# Altium footprint library spd1501.PcbLib: 80 footprints (part 5 of 5)
Each footprint in its own frame and in the unit in brackets; x right, y up, seen from the top. Pads: shape width x height; smd on the part's side, far side on the other; paste and mask are expansions set on the pad; w line width, h text height; cw(c..) or ccw(c..) is an arc to the next point about the centre after c.
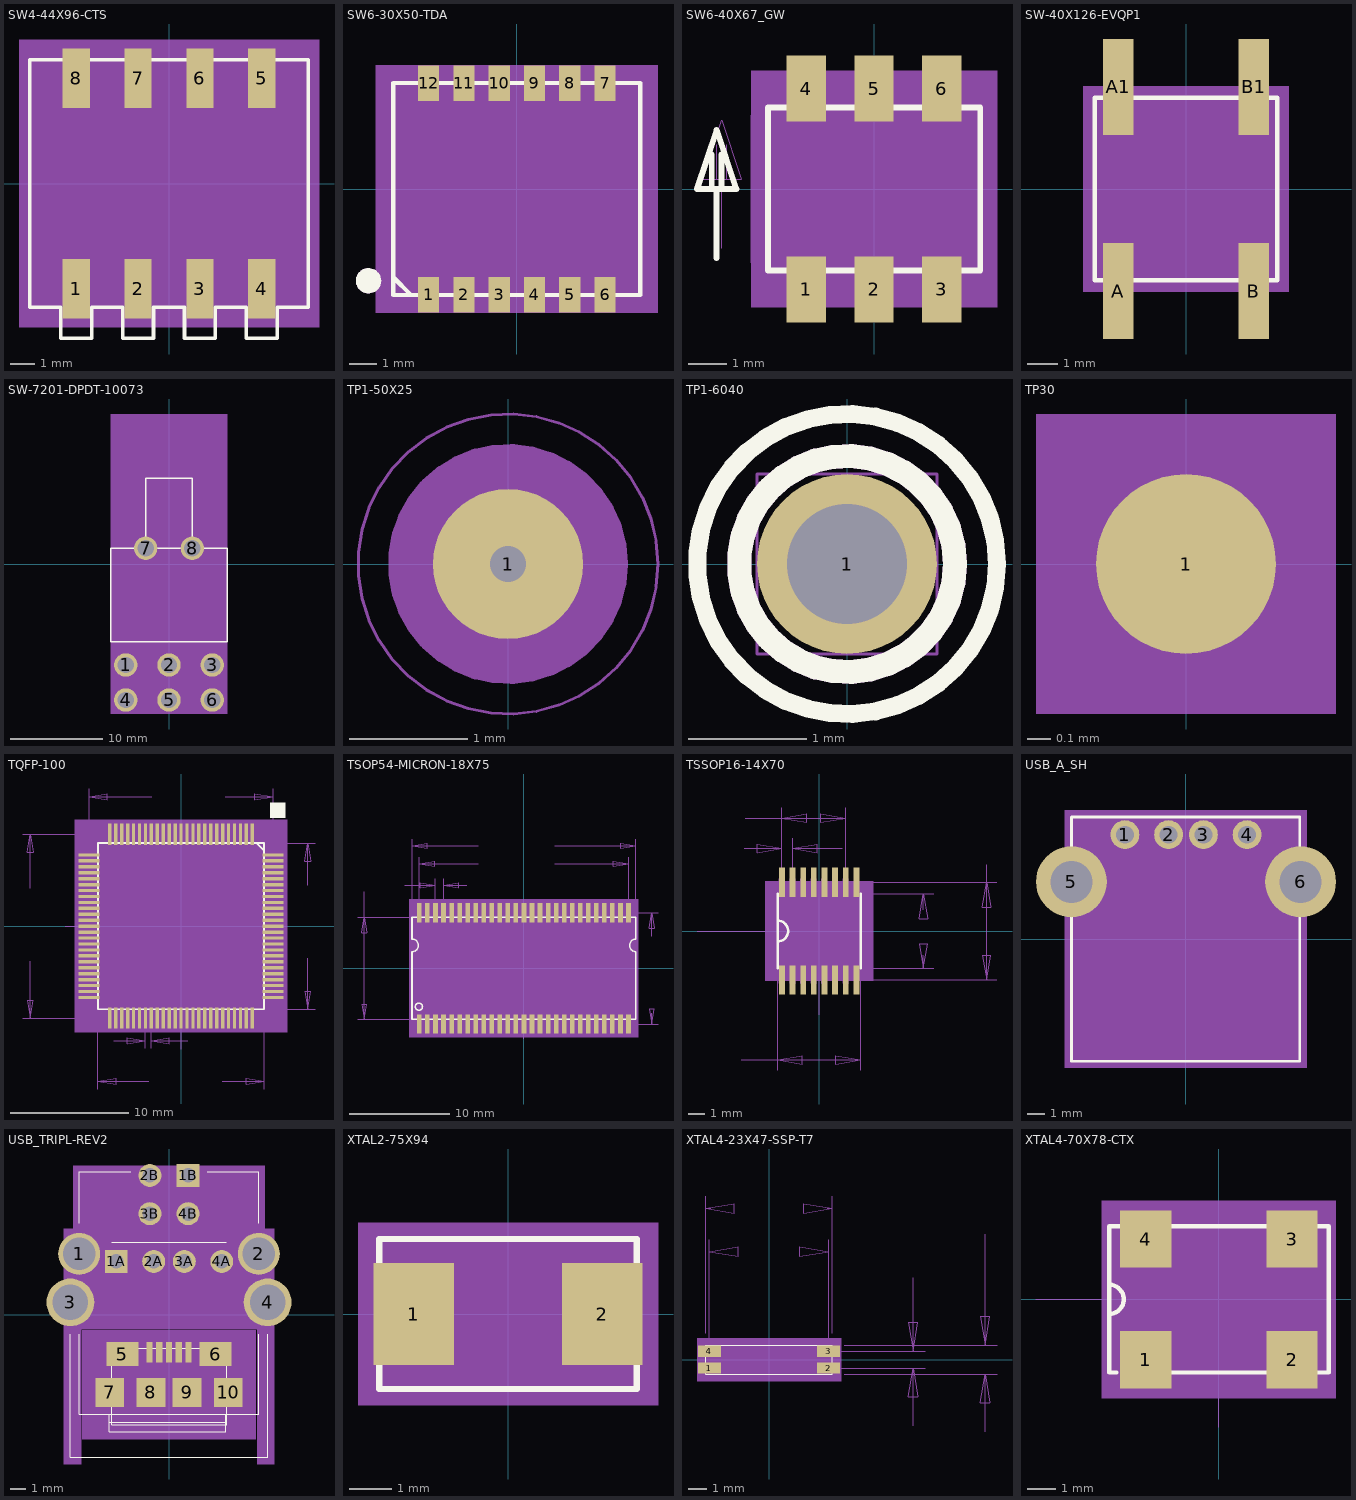
[diagram p4: the footprints below, top view; thin cyan lines are the x and y axes]

## SW4-44X96-CTS [mil]
pads (8):
  rect 44x96 smd: 1(-150,-170) 2(-50,-170) 3(50,-170) 4(150,-170) 5(150,170) 6(50,170) 7(-50,170) 8(-150,170)
Top Overlay:
  lines w6: -225,-200 -175,-200 -175,-250 -125,-250 -125,-200 -75,-200 -75,-250 -25,-250 -25,-200 25,-200 25,-250 75,-250 75,-200 125,-200 125,-250 175,-250 175,-200 225,-200 225,200 -225,200 -225,-200
Mechanical 15:
  lines w1: 25,-200 -225,-200 -225,200 25,200
  text "1" at -166,-170 h40
  text "2" at -66,-170 h40
  text "3" at 34,-170 h40
  text "4" at 134,-170 h40
  text "6" at 34,170 h40
  text "7" at -66,170 h40
  text "8" at -166,170 h40
  text "5" at 134,170 h40
Mechanical 16:
  region: -242.5,-232.5 242.5,-232.5 242.5,232.5 -242.5,232.5
  lines w1: -25,-200 -25,-250 -75,-250 -75,-200 -125,-200 -125,-250 -175,-250 -175,-200 -225,-200 -225,200 225,200 225,-200 ; -25,-200 25,-200 ; -25,-200 225,-200 ; -25,-200 25,-200 ; 25,-200 25,-250 75,-250 75,-200 125,-200 125,-250 175,-250 175,-200 225,-200
Mechanical 17:
  text ".Designator" at -190,-30 h40
  text "X" at -10,75 h40
  text "X" at -55,75 h40
  text "LOW PROFILE DIP-4" at -150,75 h40

## SW6-30X50-TDA [mil]
pads (12):
  rect 30x50 smd: 1(-125,-150) 2(-75,-150) 3(-25,-150) 4(25,-150) 5(75,-150) 6(125,-150) 7(125,150) 8(75,150) 9(25,150) 10(-25,150) 11(-75,150) 12(-125,150)
Top Overlay:
  circle w6: c-210,-130 r5
  circle w6: c-210,-130 r10
  circle w6: c-210,-130 r15
  lines w6: -225,-130 -195,-130 ; -175,-125 -150,-150 ; -175,-150 175,-150 175,150 -175,150 -175,-150
Mechanical 15:
  lines w6: 75,-150 -175,-150 -175,150 75,150
  text "8" at 59,150 h40
  text "5" at 59,-150 h40
  text "10" at -57,150 h40
  text "9" at 9,150 h40
  text "11" at -107,150 h40
  text "12" at -157,150 h40
  text "1" at -141,-150 h40
  text "2" at -91,-150 h40
  text "3" at -41,-150 h40
  text "4" at 9,-150 h40
  text "7" at 109,150 h40
  text "6" at 109,-150 h40
Mechanical 16:
  circle w6: c-210,-130 r5
  circle w6: c-210,-130 r10
  circle w6: c-210,-130 r15
  region: -200,-175 200,-175 200,175 -200,175
  lines w6: -220,-130 -200,-130 ; -175,-125 -150,-150 ; -175,-150 175,-150 175,150 -175,150 -175,-150
Mechanical 17:
  text ".Designator" at -75,-25 h40
  text "X" at -10,75 h40
  text "X" at -55,75 h40
  text "DIP_SWITCH_6" at -150,75 h40

## SW6-40X67_GW [mil]
pads (6):
  rect 40x67 smd: 1(-69,-102) 2(0,-102) 3(69,-102) 4(-69,102) 5(0,102) 6(69,102)
Top Overlay:
  lines w6: -165,0 -165,35 ; -160,-70 -160,0 ; -155,0 -155,35 ; -180,0 -140,0 -160,60 -180,0 ; -108,-83 -108,83 0,83 108,83 108,-83 0,-83 -108,-83
  text ".Designator" at 155,-120 h35
Mechanical 15:
  lines w1: -125,-75 -75,-75 -75,75 -125,75 -125,-75 ; -25,-75 25,-75 25,75 -25,75 -25,-75 ; 75,-75 125,-75 125,75 75,75 75,-75
  text "1" at -81.8,-102 h32
  text "3" at 56.2,-102 h32
  text "6" at 56.2,102 h32
  text "4" at -81.8,102 h32
  text "5" at -12.8,102 h32
  text "2" at -12.8,-102 h32
Mechanical 16:
  region: -125,-120 125,-120 125,120 -125,120
  lines w1: -160,10 -160,45 ; -155,-60 -155,10 ; -150,10 -150,45 ; -108,-83 -108,83 ; 108,-83 108,83 ; -175,10 -135,10 -155,70 -175,10
Mechanical 17:
  text "CASD20TB" at -100,75 h40
  text "X" at -5,75 h40
  text "X" at 40,75 h40

## SW-40X126-EVQP1 [mil]
pads (4):
  rect 40x126 smd: A(-89,-134) A1(-89,134) B(89,-134) B1(89,134)
Top Overlay:
  lines w6: -120,-120 120,-120 120,120 -120,120 -120,-120
Mechanical 15:
  text "B" at 73,-134 h40
  text "B1" at 57,134 h40
  text "A" at -105,-134 h40
  text "A1" at -121,134 h40
Mechanical 16:
  region: 135,135 -135,135 -135,-135 135,-135
  lines w1: -120,-120 120,-120 120,120 -120,120 -120,-120
Mechanical 17:
  text ".Designator" at -145,-35 h40
  text "X" at 90,75 h40
  text "X" at 45,75 h40
  text "PUSHBUTTON SW" at -50,75 h40

## SW-7201-DPDT-10073 [mil]
pads (8):
  round 100 hole 70: 1(-185,-432.5) 2(0,-432.5) 3(185,-432.5) 4(-185,-582.5) 5(0,-582.5) 6(185,-582.5) 7(-100,67.5) 8(100,67.5)
Top Overlay:
  lines w6: -100,67.5 -100,367.5 100,367.5 100,67.5 ; -250,-332.5 250,-332.5 250,67.5 -250,67.5 -250,-332.5
  text ".Designator" at -275,-182.5 h35
Mechanical 15:
  text "4" at -205,-613.5 h40
  text "1" at -205,-463.5 h40
  text "5" at 5,-618.5 h40
  text "2" at 5,-468.5 h40
  text "6" at 180,-618.5 h40
  text "3" at 180,-468.5 h40
  text "8" at 95,31.5 h40
  text "7" at -120,36.5 h40
Mechanical 16:
  region: -250,-642.5 250,-642.5 250,642.5 -250,642.5
  lines w1: -200,-332.5 -200,-432.5 -175,-432.5 -175,-332.5 ; -100,67.5 -100,367.5 100,367.5 100,67.5 ; -25,-332.5 -25,-432.5 25,-432.5 25,-332.5 ; -25,367.5 -25,642.5 25,642.5 25,367.5 ; 175,-332.5 175,-432.5 200,-432.5 200,-332.5 ; -250,-332.5 -250,67.5 250,67.5 250,-332.5 -250,-332.5
Mechanical 17:
  text "SWITCH" at -30,-377.5 h35
  text "X" at 0,-377.5 h35
  text "X" at 30,-377.5 h35

## TP1-50X25 [mil]
pads (1):
  round 50 / inner round 25 / far side round 25 hole 12: 1(0,0)
Mechanical 15:
  text "1" at -14,0 h35
Mechanical 16:
  circle w8: c0,0 r36
  circle w1: c0,0 r50
  pour cut-out: 36.71,0 35.46,9.5 31.8,18.36 25.96,25.96 18.36,31.8 9.5,35.46 0,36.71 -9.5,35.46 -18.36,31.8 -25.96,25.96 -31.8,18.36 -35.46,9.5 -36.71,0 -35.46,-9.5 -31.8,-18.36 -25.96,-25.96 -18.36,-31.8 -9.5,-35.46 0,-36.71 9.5,-35.46 18.36,-31.8 25.96,-25.96 31.8,-18.36 35.46,-9.5
Mechanical 17:
  text ".Designator" at 0,10 h40
Mechanical 20:
  text "TP1-60X40" at 100,200 h40
  text "SM  68X48RD" at 100,-100 h40
  text "PAD 60X40RD" at 100,75 h40

## TP1-6040 [mil]
pads (1):
  round 60 hole 40: 1(0,0)
Top Overlay:
  circle w8: c0,0 r36
  circle w6: c0,0 r50
Mechanical 15:
  text "1" at -16,0 h40
Mechanical 16:
  circle w8: c0,0 r36
  circle w1: c0,0 r50
  lines w1: -30,-30 30,-30 30,30 -30,30 -30,-30
Mechanical 17:
  text ".Designator" at 0,10 h40
Mechanical 20:
  text "TP1-60X40" at 100,200 h40
  text "SM  68X48RD" at 100,-100 h40
  text "PAD 60X40RD" at 100,75 h40

## TP30 [mil]
pads (1):
  round 30 smd: 1(0,0)
Top Overlay:
  text ".Designator" at 210,20 h35
Mechanical 15:
  text "1" at 16,0 h40
Mechanical 16:
  region: -25,-25 25,-25 25,25 -25,25
Mechanical 17:
  text "USERPART#" at 0,-150 h25
  text "TOLERANCE" at 0,-100 h25
  text "NO-POP" at 0,0 h25
Mechanical 24:
  text "PAD 38RD" at 0,-150 h25

## TQFP-100 [mil]
pads (100):
  rrect0% 11x70 smd: 1(236.4,305) 2(216.7,305) 3(197,305) 4(177.3,305) 5(157.6,305) 6(137.9,305) 7(118.2,305) 8(98.5,305) 9(78.8,305) 10(59.1,305) 11(39.4,305) 12(19.7,305) 13(0,305) 14(-19.7,305) 15(-39.4,305) 16(-59.1,305) 17(-78.8,305) 18(-98.5,305) 19(-118.2,305) 20(-137.9,305) 21(-157.6,305) 22(-177.3,305) 23(-197,305) 24(-216.7,305) 25(-236.4,305) 51(-236.4,-305) 52(-216.7,-305) 53(-197,-305) 54(-177.3,-305) 55(-157.6,-305) 56(-137.9,-305) 57(-118.2,-305) 58(-98.5,-305) 59(-78.8,-305) 60(-59.1,-305) 61(-39.4,-305) 62(-19.7,-305) 63(0,-305) 64(19.7,-305) 65(39.4,-305) 66(59.1,-305) 67(78.8,-305) 68(98.5,-305) 69(118.2,-305) 70(137.9,-305) 71(157.6,-305) 72(177.3,-305) 73(197,-305) 74(216.7,-305) 75(236.4,-305)
  rrect0% 70x11 smd: 26(-305,236.4) 27(-305,216.7) 28(-305,197) 29(-305,177.3) 30(-305,157.6) 31(-305,137.9) 32(-305,118.2) 33(-305,98.5) 34(-305,78.8) 35(-305,59.1) 36(-305,39.4) 37(-305,19.7) 38(-305,0) 39(-305,-19.7) 40(-305,-39.4) 41(-305,-59.1) 42(-305,-78.8) 43(-305,-98.5) 44(-305,-118.2) 45(-305,-137.9) 46(-305,-157.6) 47(-305,-177.3) 48(-305,-197) 49(-305,-216.7) 50(-305,-236.4) 76(305,-236.4) 77(305,-216.7) 78(305,-197) 79(305,-177.3) 80(305,-157.6) 81(305,-137.9) 82(305,-118.2) 83(305,-98.5) 84(305,-78.8) 85(305,-59.1) 86(305,-39.4) 87(305,-19.7) 88(305,0) 89(305,19.7) 90(305,39.4) 91(305,59.1) 92(305,78.8) 93(305,98.5) 94(305,118.2) 95(305,137.9) 96(305,157.6) 97(305,177.3) 98(305,197) 99(305,216.7) 100(305,236.4)
Top Overlay:
  pour cut-out: 345,410 345,360 295,360 295,410
  lines w6: 250.5,275.5 275.5,250.5 ; -275.5,-275.5 -275.5,275.5 275.5,275.5 275.5,-275.5 -275.5,-275.5
Mechanical 15:
  text "82" at 329,-118.2 h30
  text "58" at -74.5,-305 h30
  text "44" at -281,-118.2 h30
  text "25" at -212.4,305 h30
  text "20" at -113.9,305 h30
  text "8" at 110.5,305 h30
  text "88" at 329,0 h30
  text "31" at -281,137.9 h30
  text "4" at 189.3,305 h30
  text "22" at -153.3,305 h30
  text "43" at -281,-98.5 h30
  text "16" at -35.1,305 h30
  text "11" at 63.4,305 h30
  text "42" at -281,-78.8 h30
  text "17" at -54.8,305 h30
  text "28" at -281,197 h30
  text "47" at -281,-177.3 h30
  text "86" at 329,-39.4 h30
  text "14" at 4.3,305 h30
  text "23" at -173,305 h30
  text "12" at 43.7,305 h30
  text "50" at -281,-236.4 h30
  text "21" at -133.6,305 h30
  text "41" at -281,-59.1 h30
  text "6" at 149.9,305 h30
  text "5" at 169.6,305 h30
  text "2" at 228.7,305 h30
  text "33" at -281,98.5 h30
  text "40" at -281,-39.4 h30
  text "19" at -94.2,305 h30
  text "30" at -281,157.6 h30
  text "32" at -281,118.2 h30
  text "10" at 83.1,305 h30
  text "29" at -281,177.3 h30
  text "3" at 209,305 h30
  text "15" at -15.4,305 h30
  text "85" at 329,-59.1 h30
  text "38" at -281,0 h30
  text "100" at 341,236.4 h30
  text "74" at 240.7,-305 h30
  text "64" at 43.7,-305 h30
  text "75" at 260.4,-305 h30
  text "66" at 83.1,-305 h30
  text "72" at 201.3,-305 h30
  text "61" at -15.4,-305 h30
  text "39" at -281,-19.7 h30
  text "57" at -94.2,-305 h30
  text "67" at 102.8,-305 h30
  text "90" at 329,39.4 h30
  text "35" at -281,59.1 h30
  text "71" at 181.6,-305 h30
  text "63" at 24,-305 h30
  text "73" at 221,-305 h30
  text "76" at 329,-236.4 h30
  text "7" at 130.2,305 h30
  text "77" at 329,-216.7 h30
  text "54" at -153.3,-305 h30
  text "52" at -192.7,-305 h30
  text "69" at 142.2,-305 h30
  text "68" at 122.5,-305 h30
  text "51" at -212.4,-305 h30
  text "91" at 329,59.1 h30
  text "87" at 329,-19.7 h30
  text "36" at -281,39.4 h30
  text "1" at 248.4,305 h30
  text "9" at 90.8,305 h30
  text "89" at 329,19.7 h30
  text "37" at -281,19.7 h30
  text "49" at -281,-216.7 h30
  text "34" at -281,78.8 h30
  text "92" at 329,78.8 h30
  text "99" at 329,216.7 h30
  text "98" at 329,197 h30
  text "97" at 329,177.3 h30
  text "96" at 329,157.6 h30
  text "95" at 329,137.9 h30
  text "94" at 329,118.2 h30
  text "93" at 329,98.5 h30
  text "84" at 329,-78.8 h30
  text "83" at 329,-98.5 h30
  text "81" at 329,-137.9 h30
  text "80" at 329,-157.6 h30
  text "79" at 329,-177.3 h30
  text "78" at 329,-197 h30
  text "70" at 161.9,-305 h30
  text "65" at 63.4,-305 h30
  text "62" at 4.3,-305 h30
  text "60" at -35.1,-305 h30
  text "59" at -54.8,-305 h30
  text "56" at -113.9,-305 h30
  text "55" at -133.6,-305 h30
  text "53" at -173,-305 h30
  text "48" at -281,-197 h30
  text "46" at -281,-157.6 h30
  text "45" at -281,-137.9 h30
  text "27" at -281,216.7 h30
  text "26" at -281,236.4 h30
  text "24" at -192.7,305 h30
  text "18" at -74.5,305 h30
  text "13" at 24,305 h30
Mechanical 16:
  region: 352.5,-352.5 -352.5,-352.5 -352.5,352.5 352.5,352.5
  lines w1: -525,-305 -261.4,-305 ; -525,305 -261.4,305 ; -500,-116.5 -500,-305 ; -500,126.5 -500,305 ; -383.5,0 -25,0 ; -305,261.4 -305,455 ; -275.5,-540 -275.5,-300.5 ; -223.5,-380 -118.2,-380 ; -118.2,-405 -118.2,-330 ; -106.5,-515 -275.5,-515 ; -98.5,-405 -98.5,-330 ; -96.5,430 -305,430 ; 0,-408.5 0,-25 ; 21.5,-380 -98.5,-380 ; 136.5,-515 275.5,-515 ; 146.5,430 305,430 ; 275.5,-540 275.5,-300.5 ; 300.5,-275.5 445,-275.5 ; 300.5,275.5 445,275.5 ; 305,261.4 305,455 ; 420,-106.5 420,-275.5 ; 420,136.5 420,275.5 ; -500,-305 -510,-245 -490,-245 -500,-305 ; -500,305 -490,245 -510,245 -500,305 ; -305,430 -245,440 -245,420 -305,430 ; -275.5,-515 -215.5,-505 -215.5,-525 -275.5,-515 ; -118.2,-380 -178.2,-390 -178.2,-370 -118.2,-380 ; -98.5,-380 -38.5,-370 -38.5,-390 -98.5,-380 ; 275.5,-515 215.5,-525 215.5,-505 275.5,-515 ; 305,430 245,420 245,440 305,430 ; 420,-275.5 410,-215.5 430,-215.5 420,-275.5 ; 420,275.5 430,215.5 410,215.5 420,275.5
  lines w6: 250.5,275.5 275.5,250.5 ; -275.5,-275.5 -275.5,275.5 275.5,275.5 275.5,-275.5 -275.5,-275.5
Mechanical 20:
  text "0" at -410,15 h30
  text "0" at 15,-435 h30
  text ".6100" at 120,445 h30
  text ".6100" at -515,100 h30
  text ".5510" at 405,110 h30
  text ".5510" at 110,-500 h30
  text ".0197" at -250,-365 h30
  text "PAD 70X11OV" at 230,730 h40
  text "PAD 11X70OV" at 225,640 h40
  text "LQFP100" at 160,-610 h40
Mechanical 21:
  text "PART#" at 135,120 h40
  text "TOL" at 65,-165 h40
  text "506173-0001A" at 120,-115 h40
  text ".Designator" at 170,65 h40

## TSOP54-MICRON-18X75 [mil]
pads (54):
  rrect0% 18x75 smd: 1(-409.5,-218) 2(-378,-218) 3(-346.5,-218) 4(-315,-218) 5(-283.5,-218) 6(-252,-218) 7(-220.5,-218) 8(-189,-218) 9(-157.5,-218) 10(-126,-218) 11(-94.5,-218) 12(-63,-218) 13(-31.5,-218) 14(0,-218) 15(31.5,-218) 16(63,-218) 17(94.5,-218) 18(126,-218) 19(157.5,-218) 20(189,-218) 21(220.5,-218) 22(252,-218) 23(283.5,-218) 24(315,-218) 25(346.5,-218) 26(378,-218) 27(409.5,-218) 28(409.5,218) 29(378,218) 30(346.5,218) 31(315,218) 32(283.5,218) 33(252,218) 34(220.5,218) 35(189,218) 36(157.5,218) 37(126,218) 38(94.5,218) 39(63,218) 40(31.5,218) 41(0,218) 42(-31.5,218) 43(-63,218) 44(-94.5,218) 45(-126,218) 46(-157.5,218) 47(-189,218) 48(-220.5,218) 49(-252,218) 50(-283.5,218) 51(-315,218) 52(-346.5,218) 53(-378,218) 54(-409.5,218)
Top Overlay:
  circle w6: c-411.5,-150 r14.1
  lines w6: -438.5,-200 438.5,-200 438.5,65 cw(c438.5,90) 438.5,115 438.5,200 -438.5,200 -438.5,115 cw(c-438.5,90) -438.5,65 -438.5,-200
Mechanical 15:
  text "1" at -425.5,-218 h40
  text "3" at -362.5,-218 h40
  text "9" at -173.5,-218 h40
  text "14" at -32,-218 h40
  text "27" at 377.5,-218 h40
  text "49" at -284,218 h40
  text "43" at -95,218 h40
  text "10" at -158,-218 h40
  text "31" at 283,218 h40
  text "19" at 125.5,-218 h40
  text "17" at 62.5,-218 h40
  text "16" at 31,-218 h40
  text "25" at 314.5,-218 h40
  text "4" at -331,-218 h40
  text "33" at 220,218 h40
  text "34" at 188.5,218 h40
  text "26" at 346,-218 h40
  text "35" at 157,218 h40
  text "48" at -252.5,218 h40
  text "50" at -315.5,218 h40
  text "23" at 251.5,-218 h40
  text "51" at -347,218 h40
  text "32" at 251.5,218 h40
  text "20" at 157,-218 h40
  text "53" at -410,218 h40
  text "2" at -394,-218 h40
  text "18" at 94,-218 h40
  text "21" at 188.5,-218 h40
  text "39" at 31,218 h40
  text "22" at 220,-218 h40
  text "15" at -0.5,-218 h40
  text "38" at 62.5,218 h40
  text "30" at 314.5,218 h40
  text "7" at -236.5,-218 h40
  text "8" at -205,-218 h40
  text "42" at -63.5,218 h40
  text "44" at -126.5,218 h40
  text "13" at -63.5,-218 h40
  text "45" at -158,218 h40
  text "29" at 346,218 h40
  text "47" at -221,218 h40
  text "5" at -299.5,-218 h40
  text "11" at -126.5,-218 h40
  text "24" at 283,-218 h40
  text "37" at 94,218 h40
  text "6" at -268,-218 h40
  text "12" at -95,-218 h40
  text "54" at -441.5,218 h40
  text "52" at -378.5,218 h40
  text "41" at -32,218 h40
  text "46" at -189.5,218 h40
  text "28" at 377.5,218 h40
  text "40" at -0.5,218 h40
  text "36" at 125.5,218 h40
Mechanical 16:
  circle w1: c-411.5,-150 r14.1
  region: -448.5,270 448.5,270 448.5,-270 -448.5,-270
  lines w1: -650,-200 -425,-200 ; -650,200 -425,200 ; -625,300 -625,200 ; -466.5,325 -346.5,325 ; -450,0 -25,0 ; -438.5,200 -438.5,115 cw(c-438.5,90) -438.5,65 -438.5,-200 438.5,-200 438.5,65 cw(c438.5,90) 438.5,115 438.5,200 -407,200 ; -438.5,225 -438.5,505 ; -409.5,243 -409.5,435 ; -346.5,243 -346.5,350 ; -315,243 -315,350 ; -225,325 -315,325 ; -180,410 -409.5,410 ; -180,480 -438.5,480 ; 0,-275 0,-25 ; 120,410 409.5,410 ; 120,480 438.5,480 ; 403,-218 525,-218 ; 403,218 525,218 ; 409.5,243 409.5,435 ; 438.5,225 438.5,505 ; 500,-175 500,-218 ; 500,125 500,218 ; -625,-200 -635,-140 -615,-140 -625,-200 ; -625,-200 -625,200 ; -625,200 -615,140 -635,140 -625,200 ; -438.5,480 -378.5,490 -378.5,470 -438.5,480 ; -409.5,410 -349.5,420 -349.5,400 -409.5,410 ; -346.5,325 -406.5,315 -406.5,335 -346.5,325 ; -315,325 -255,335 -255,315 -315,325 ; 409.5,410 349.5,400 349.5,420 409.5,410 ; 438.5,480 378.5,470 378.5,490 438.5,480 ; 500,-218 490,-158 510,-158 500,-218 ; 500,218 510,158 490,158 500,218
Mechanical 17:
  text "XXX" at 260,115 h40
  text "XXX" at 60,115 h40
  text "MT48LC4M16A2TG-8EL" at -155,115 h40
  text ".Designator" at -85,-20 h40
Mechanical 20:
  text "0" at -520,-20 h40
  text "0" at -20,-345 h40
  text ".8770" at -150,460 h40
  text ".8190" at -150,390 h40
  text ".4000" at -605,330 h40
  text ".4360" at 520,-145 h40
  text ".0315" at -195,305 h40
  text "TSOP54-MICRON-18X75" at -445,560 h40
  text "SP  18X75OV" at 575,-50 h40
  text "SM  26X83OV" at 575,25 h40
  text "PAD 18X75OV" at 575,100 h40

## TSSOP16-14X70 [mil]
pads (16):
  rrect0% 14x70 smd: 1(-89.6,-117.6) 2(-64,-117.6) 3(-38.4,-117.6) 4(-12.8,-117.6) 5(12.8,-117.6) 6(38.4,-117.6) 7(64,-117.6) 8(89.6,-117.6) 9(89.6,117.6) 10(64,117.6) 11(38.4,117.6) 12(12.8,117.6) 13(-12.8,117.6) 14(-38.4,117.6) 15(-64,117.6) 16(-89.6,117.6)
Top Overlay:
  lines w6: -100,-90 -100,90 ; -99.8,-25 ccw(c-99.8,0) -99.8,25 ; 100,-90 100,90
Mechanical 15:
  text "1" at -97.6,-128.6 h20
  text "2" at -72,-128.6 h20
  text "5" at 4.8,-128.6 h20
  text "11" at 29.4,117.6 h20
  text "16" at -98.6,117.6 h20
  text "6" at 30.4,-128.6 h20
  text "13" at -21.8,117.6 h20
  text "10" at 55,117.6 h20
  text "14" at -47.4,117.6 h20
  text "3" at -46.4,-128.6 h20
  text "4" at -20.8,-128.6 h20
  text "12" at 3.8,117.6 h20
  text "9" at 88.6,117.6 h20
  text "7" at 56,-128.6 h20
  text "15" at -73,117.6 h20
  text "8" at 81.6,-128.6 h20
Mechanical 16:
  region: 130,120 -130,120 -130,-120 130,-120
  lines w1: -294,0 -25,0 ; -188,-310 -100,-310 ; -180.8,199 -89.6,199 ; -177.8,272 -89.6,272 ; -100,-335 -100,-115 ; -99.8,-25 ccw(c-99.8,0) -99.8,25 ; -89.6,224 -89.6,142.6 -89.6,297 ; -64,142.6 -64,224 ; 0,-201 0,-25 ; 55.8,199 -64,199 ; 64,142.6 64,297 ; 89,-117.6 428.2,-117.6 ; 89,117.6 428.2,117.6 ; 100,-335 100,-115 ; 112.2,-90 276.2,-90 ; 112.2,90 276.2,90 ; 251.2,-58 251.2,-90 ; 251.2,52 251.2,90 ; 403.2,160 403.2,117.6 ; -100,-310 -40.1,-300 -40.1,-320 -100,-310 ; -100,-310 100,-310 ; -89.6,199 -149.5,189 -149.5,209 -89.6,199 ; -89.6,272 -29.7,282 -29.7,262 -89.6,272 ; -89.6,272 64,272 ; -64,199 -4.1,209 -4.1,189 -64,199 ; 64,272 4.1,262 4.1,282 64,272 ; 100,-310 40.1,-320 40.1,-300 100,-310 ; 251.2,-90 241.2,-30.1 261.2,-30.1 251.2,-90 ; 251.2,90 261.2,30.1 241.2,30.1 251.2,90 ; 403.2,-117.6 403.2,117.6 ; 403.2,-117.6 393.2,-57.7 413.2,-57.7 403.2,-117.6 ; 403.2,117.6 413.2,57.7 393.2,57.7 403.2,117.6 ; -100,-90 100,-90 100,90 -100,90 -100,-90 ; -95.6,-126 -83.6,-126 -83.6,-96 -95.6,-96 -95.6,-126 ; -95.6,96 -83.6,96 -83.6,126 -95.6,126 -95.6,96 ; -70,-126 -58,-126 -58,-96 -70,-96 -70,-126 ; -70,96 -58,96 -58,126 -70,126 -70,96 ; -44.4,-126 -32.4,-126 -32.4,-96 -44.4,-96 -44.4,-126 ; -44.4,96 -32.4,96 -32.4,126 -44.4,126 -44.4,96 ; -18.8,-126 -6.8,-126 -6.8,-96 -18.8,-96 -18.8,-126 ; -18.8,96 -6.8,96 -6.8,126 -18.8,126 -18.8,96 ; 6.8,-126 18.8,-126 18.8,-96 6.8,-96 6.8,-126 ; 6.8,96 18.8,96 18.8,126 6.8,126 6.8,96 ; 32.4,-126 44.4,-126 44.4,-96 32.4,-96 32.4,-126 ; 32.4,96 44.4,96 44.4,126 32.4,126 32.4,96 ; 58,-126 70,-126 70,-96 58,-96 58,-126 ; 58,96 70,96 70,126 58,126 58,96
Mechanical 17:
  text "X" at 37,20 h40
  text "X" at 2,20 h40
  text "SN74CBTLV3257PWR" at -33,20 h40
  text ".Designator" at -75,-20 h40
Mechanical 20:
  text "0" at -368,-20 h40
  text "0" at -20,-275 h40
  text "TSSOP16-14X70" at -275,450 h40
  text "PAD 14X70 OV" at -245,-540 h40
  text ".0256" at -455.8,179 h40
  text ".1536" at -452.8,252 h40
  text ".2000" at -463,-330 h40
  text ".1800" at 131.2,-23 h40
  text ".2352" at 283.2,195 h40

## USB_A_SH [mil]
pads (6):
  round 65 hole 40: 1(-137.1,235.7) 2(-38.7,235.7) 3(40.1,235.7) 4(138.5,235.7)
  round 160 hole 95: 5(-258,129) 6(259.4,129)
Top Overlay:
  lines w6: -258,-275.7 257.8,-275.7 257.8,275.5 -258,275.5 -258,-275.7
  text ".Designator" at -322.1,-149.3 h50
Mechanical 15:
  text "6" at 275.4,129 h40
  text "5" at -242,129 h40
  text "3" at 56.1,235.7 h40
  text "1" at -121.1,235.7 h40
  text "2" at -22.7,235.7 h40
  text "4" at 154.5,235.7 h40
Mechanical 16:
  region: 273,291 -273,291 -273,-291 273,-291
  lines w6: -258,-275.7 -258,275.5 257.8,275.5 257.8,-275.7 -258,-275.7
Mechanical 17:
  text "USB-A connector" at -148,138 h40
  text "TOL" at -119,59 h40
  text "PART#" at -151,63 h40

## USB_TRIPL-REV2 [mil]
pads (23):
  round 110 hole 86: 1(-235,160) 2(235,160)
  rect 60x60 hole 38: 1A(-138,140) 1B(50,365)
  rect 16x53 smd: 1AB(-51,-97.5) 2AB(-25.5,-97.5) 3AB(0,-97.5) 4AB(25.5,-97.5) 5AB(51,-97.5)
  round 60 hole 38: 2A(-40,140) 2B(-50,365) 3A(40,140) 3B(-50,265) 4A(138,140) 4B(50,265)
  round 125 hole 93: 3(-258,33) 4(258,33)
  rect 83x63 smd: 5(-121.9,-102.5) 6(121.9,-102.5)
  rect 75x75 smd: 7(-155.4,-202.9) 8(-47.3,-202.9) 9(47.3,-202.9) 10(155.4,-202.9)
Top Overlay:
  lines w1: -258,-51 -258,-372 258,-372 258,-51 ; -235,-50 -235,-260 235,-260 235,-50 ; -235,240 -235,375 -100,375 ; -156,-281 148,-281 ; -156,-261 -156,-306 148,-306 148,-261 ; -150,190 150,190 ; 100,375 235,375 235,240 ; -149.6,-287.9 151.6,-287.9 151.6,-86.5 -149.6,-86.5 -149.6,-287.9
  text ".Designator" at 450,55 h50
Mechanical 15:
  text "1AB" at -27,-35 h15
  text "1B" at 62,365 h15
  text "1A" at -126,140 h15
  text "2AB" at -2,-35 h15
  text "2A" at -28,140 h15
  text "2B" at -38,365 h15
  text "3AB" at 23,-35 h15
  text "3A" at 52,140 h15
  text "3B" at -38,265 h15
  text "4AB" at 48,-35 h15
  text "7" at -149.4,-202.9 h15
  text "8" at -41.3,-202.9 h15
  text "5" at -115.9,-102.5 h15
  text "6" at 127.9,-102.5 h15
  text "3" at -252,33 h15
  text "4" at 264,33 h15
  text "1" at -229,160 h15
  text "2" at 241,160 h15
  text "5AB" at 73,-35 h15
  text "4B" at 62,265 h15
  text "4A" at 150,140 h15
  text "10" at 167.4,-202.9 h15
  text "9" at 53.3,-202.9 h15
Mechanical 16:
  region: -250,390 250,390 250,225 275,225 275,-390 231,-390 231,-37 -229,-37 -229,-390 -275,-390 -275,225 -250,225
  region: -226.5,-325.5 226.5,-325.5 226.5,-39.5 -226.5,-39.5
  lines w6: -150.6,-287.9 150.6,-287.9 150.6,-86.5 -150.6,-86.5 -150.6,-287.9

## XTAL2-75X94 [mil]
pads (2):
  rect 75x95 smd: 1(-88,0) 2(88,0)
Top Overlay:
  lines w6: -120,-70 -120,70 120,70 120,-70 -120,-70
Mechanical 15:
  text "2" at 27,-36 h40
  text "1" at -42,-36 h40
Mechanical 16:
  region: -140,-85 -140,85 140,85 140,-85
  lines w1: -120,-70 -120,70 120,70 120,-70 -120,-70
Mechanical 17:
  text ".Designator" at -95,40 h40

## XTAL4-23X47-SSP-T7 [mil]
pads (4):
  rect 47x23 smd: 1(-124,-17.5) 2(124,-17.5) 3(124,17.5) 4(-124,17.5)
Top Overlay:
  lines w1: -132,-30 0,-30 132,-30 132,30 0,30 -132,30 -132,-30
Mechanical 15:
  text "4" at -108,17.5 h40
  text "1" at -108,-17.5 h40
  text "3" at 140,17.5 h40
  text "2" at 140,-17.5 h40
Mechanical 16:
  region: -150,-45 150,-45 150,45 -150,45
  lines w1: -132,55 -132,340 ; -124,42.5 -124,250 ; -121.5,225 -124,225 ; -121.5,315 -132,315 ; 121.5,225 124,225 ; 121.5,315 132,315 ; 124,42.5 124,250 ; 132,55 132,340 ; 149,-17.5 325,-17.5 ; 149,17.5 325,17.5 ; 157,-30 475,-30 ; 157,30 475,30 ; 300,-137.3 300,-17.5 ; 300,171 300,17.5 ; 450,-149.8 450,-30 ; 450,261 450,30 ; -132,315 -72.1,325 -72.1,305 -132,315 ; -124,225 -64.1,235 -64.1,215 -124,225 ; 124,225 64.1,215 64.1,235 124,225 ; 132,315 72.1,305 72.1,325 132,315 ; 300,-17.5 310,-77.4 290,-77.4 300,-17.5 ; 300,17.5 290,77.4 310,77.4 300,17.5 ; 450,-30 460,-89.9 440,-89.9 450,-30 ; 450,30 440,89.9 460,89.9 450,30 ; -132,-30 132,-30 132,30 -132,30 -132,-30
Mechanical 17:
  text ".Designator" at -90,-20 h40
Mechanical 19:
  text ".248" at -87.5,205 h40
  text ".035" at 212.5,205 h40
  text ".264" at -87.5,295 h40
  text ".060" at 362.5,295 h40

## XTAL4-70X78-CTX [mil]
pads (4):
  rect 70x78 smd: 1(-100,-82.5) 2(100,-82.5) 3(100,82.5) 4(-100,82.5)
Top Overlay:
  lines w6: -150,-20 ccw(c-150,0) -150,20 ; -140,-100 -150,-100 -150,100 -135,100 ; -70,100 70,100 ; -65,-100 65,-100 ; 135,-100 150,-100 150,100 135,100
Mechanical 15:
  text "3" at 100,66.5 h40
  text "1" at -100,-98.5 h40
  text "4" at -100,66.5 h40
  text "2" at 100,-98.5 h40
Mechanical 16:
  region: -160,-135 160,-135 160,135 -160,135
  lines w1: -250,0 -25,0 ; -150,-20 ccw(c-150,0) -150,20 ; 0,-175 0,-25 ; -150,-100 150,-100 150,100 -150,100 -150,-100
Mechanical 17:
  text ".Designator" at -90,-20 h40
Mechanical 20:
  text "0" at -320,-20 h40
  text "0" at -20,-245 h40